# EAGLE library part MCP3008-SOIC16 (library RSC-16)
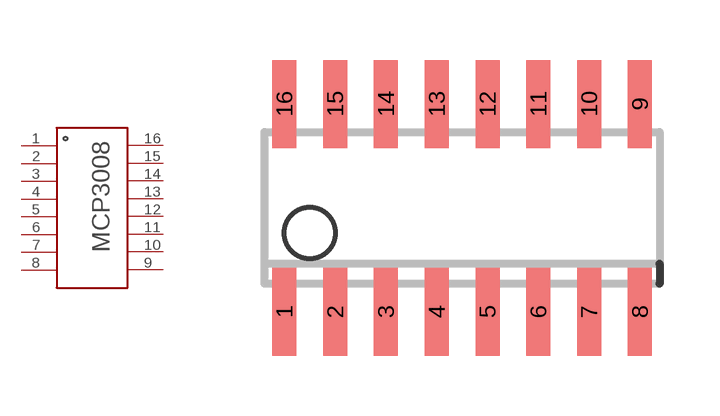
[diagram p0: symbol with the pads of SOIC16N; footprint SOIC16N]

Designator prefix -

## MCP3008-SOIC16  [SOIC16N]
1  1-CH0
2  2-CH1
3  3-CH2
4  4-CH3
5  5-CH4
6  6-CH5
7  7-CH6
8  8-CH7
9  9-DGND
10  10-CS
11  11-DIN
12  12-DOUT
13  13-CLK
14  14-AGND
15  15-VREF
16  16-VDD

## Footprint SOIC16N (pad centres in mm)
SMALL OUTLINE INTEGRATED CIRCUIT
smd 0.6 x 2.2: 1 -4.445,-2.6; 2 -3.175,-2.6; 3 -1.905,-2.6; 4 -0.635,-2.6; 5 0.635,-2.6; 6 1.905,-2.6; 7 3.175,-2.6; 8 4.445,-2.6; 9 4.445,2.6; 10 3.175,2.6; 11 1.905,2.6; 12 0.635,2.6; 13 -0.635,2.6; 14 -1.905,2.6; 15 -3.175,2.6; 16 -4.445,2.6